# EAGLE library part MM60-EZH039-B5-R850 (library SamacSys_Parts)
PCI Express / PCI Connectors Latch w/ Boss For 3.9mm Socket Source: Datasheet <https://datasheet.datasheetarchive.com/originals/distributors/Datasheets_SAMA/38565b4482c34eade2ada837c70a53fc.pdf>
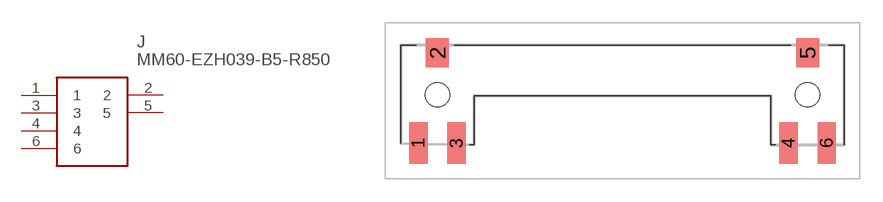
[diagram p1: symbol with the pads of MM60EZH039B5R850; footprint MM60EZH039B5R850]

Designator prefix J

## MM60-EZH039-B5-R850 (Description: PCI Express / PCI Connectors Latch w/ Boss For 3.9mm Socket; Height: 5mm; Manufacturer_Name: JAE Electronics; Manufacturer_Part_Number: MM60-EZH039-B5-R850; Mouser_Part_Number: 656-MM60-EZH039-B5-R; Mouser_Price-Stock: https://www.mouser.co.uk/ProductDetail/JAE-Electronics/MM60-EZH039-B5-R850?qs=94qWIstW55VOrGckQ1ffOQ%3D%3D)  [MM60EZH039B5R850]
1  1
2  2
3  3
4  4
5  5
6  6

## Footprint MM60EZH039B5R850 (pad centres in mm)
MM60-EZH039-B5-R850-1
smd 1.2 x 2.7: 1 -13.35,-3.15; 3 -10.85,-3.15; 4 10.85,-3.15; 6 13.35,-3.15
smd 1.5 x 1.9: 2 -12.1,2.75; 5 12.1,2.75
hole 1.58 at -12.1,0
hole 1.58 at 12.1,0